# EAGLE library part ATTINY40 (library NerduinoShieldLib)
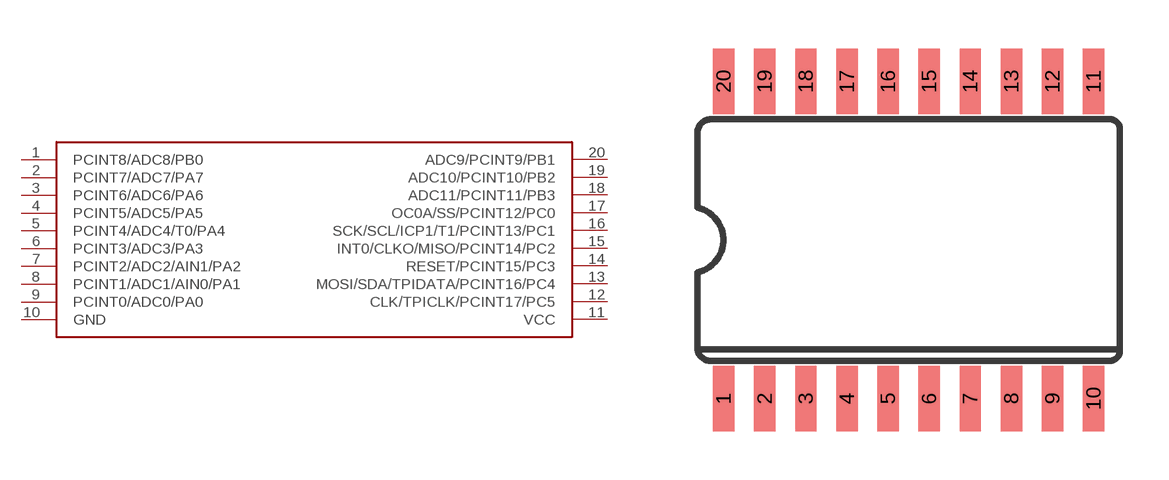
[diagram p4: symbol with the pads of SOIC20; footprint SOIC20]

Designator prefix -

## ATTINY40  [SOIC20]
1  PCINT8/ADC8/PB0
2  PCINT7/ADC7/PA7
3  PCINT6/ADC6/PA6
4  PCINT5/ADC5/PA5
5  PCINT4/ADC4/T0/PA4
6  PCINT3/ADC3/PA3
7  PCINT2/ADC2/AIN1/PA2
8  PCINT1/ADC1/AIN0/PA1
9  PCINT0/ADC0/PA0
10  GND
11  VCC
12  CLK/TPICLK/PCINT17/PC5
13  MOSI/SDA/TPIDATA/PCINT16/PC4
14  RESET/PCINT15/PC3
15  INT0/CLKO/MISO/PCINT14/PC2
16  SCK/SCL/ICP1/T1/PCINT13/PC1
17  OC0A/SS/PCINT12/PC0
18  ADC11/PCINT11/PB3
19  ADC10/PCINT10/PB2
20  ADC9/PCINT9/PB1

## Footprint SOIC20 (pad centres in mm)
smd 0.66 x 2.032: 1 -4.445,-4.902; 2 -3.175,-4.902; 3 -1.905,-4.902; 4 -0.635,-4.902; 5 0.635,-4.902; 6 1.905,-4.902; 7 3.175,-4.902; 8 4.445,-4.902; 9 5.715,-4.902; 10 6.985,-4.902; 11 6.985,4.902; 12 5.715,4.902; 13 4.445,4.902; 14 3.175,4.902; 15 1.905,4.902; 16 0.635,4.902; 17 -0.635,4.902; 18 -1.905,4.902; 19 -3.175,4.902; 20 -4.445,4.902